# Altium footprint library RF_Connectors.PcbLib: 18 footprints (part 2 of 2)
Each footprint in its own frame and in the unit in brackets; x right, y up, seen from the top. Pads: shape width x height; smd on the part's side, far side on the other; paste and mask are expansions set on the pad; w line width, h text height; cw(c..) or ccw(c..) is an arc to the next point about the centre after c.
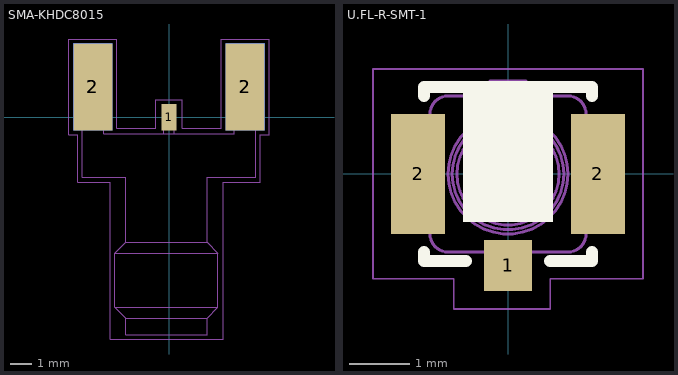
[diagram p1: the footprints below, top view; thin cyan lines are the x and y axes]

## SMA-KHDC8015 [mm] "A=1.5"
pads (5):
  rect 0.7x1.2 smd: 1(0,0)
  rect 1.8x4 smd: 2(-3.5,1.4) 2(3.5,1.4)
  rect 1.8x4 smd far side: 2(-3.5,1.4) 2(3.5,1.4)
Top Courtyard:
  lines w0.025: -4.6,-0.8 -4.6,3.6 -2.4,3.6 -2.4,-0.5 -0.6,-0.5 -0.6,0.8 0.6,0.8 0.6,-0.5 2.4,-0.5 2.4,3.6 4.6,3.6 4.6,-0.8 4.2,-0.8 4.2,-3 2.5,-3 2.5,-10.2 -2.7,-10.2 -2.7,-3 -4.2,-3 -4.2,-0.8 -4.6,-0.8
Top Assy (Mech13):
  lines w0.05: -0.25,-0.75 -0.25,0.5 0.25,0.5 0.25,-0.75 ; -2.5,-8.75 2.25,-8.75 ; -2.5,-8.75 -2,-9.25 ; -2.5,-8.75 -2.5,-6.25 ; -2.5,-6.25 2.25,-6.25 ; -2.5,-6.25 -2,-5.75 ; -2,-9.25 1.75,-9.25 ; -2,-9.25 -2,-10 1.75,-10 1.75,-9.25 ; -2,-5.75 1.75,-5.75 ; -2,-5.75 -2,-2.75 -4,-2.75 -4,3.25 -3,3.25 -3,-0.75 3,-0.75 3,3.25 4,3.25 4,-2.75 1.75,-2.75 1.75,-5.75 ; 1.75,-9.25 2.25,-8.75 ; 1.75,-5.75 2.25,-6.25 ; 2.25,-8.75 2.25,-6.25
  text ".Designator" at 0.453,-7.511 h2
3D body "SMA_KHDC8015.SLDPRT": height 4, standoff -4, extent -4,-10.12 4,3.15

## U.FL-R-SMT-1 [mm] "U.FL Surface Mount Coaxial Connector"
height 1.25
pads (3):
  rect 0.8x0.85 smd: 1(0,-1.525)
  rect 0.9x2 smd paste-3: 2(-1.5,0) 2(1.5,0)
Top Overlay:
  rectangle: -0.75,-0.8 0.75,1.45
  lines w0.2: -1.4,-1.3 -1.4,-1.45 -0.7,-1.45 ; -1.4,1.3 -1.4,1.45 1.4,1.45 1.4,1.3 ; 0.7,-1.45 1.4,-1.45 1.4,-1.3
Top Paste:
  region: 1.9,-0.95 1.9,-0.15 1.1,-0.15 1.1,-0.95
  region: 1.1,0.95 1.1,0.15 1.9,0.15 1.9,0.95
  region: -1.1,-0.95 -1.1,-0.15 -1.9,-0.15 -1.9,-0.95
  region: -1.9,0.95 -1.9,0.15 -1.1,0.15 -1.1,0.95
Top Courtyard:
  lines w0.025: -2.25,-1.75 -2.25,1.75 2.25,1.75 2.25,-1.75 0.7,-1.75 0.7,-2.25 -0.9,-2.25 -0.9,-1.75 -2.25,-1.75
Top Assy (Mech13):
  lines w0.05: -1.3,-0.9 -1.5,-0.9 -1.5,0.9 -1.3,0.9 ; -0.775,-0.35 -0.424,-0.35 ccw(c0,0) 0.424,-0.35 0.775,-0.35 ; -0.775,0.35 -0.424,0.35 cw(c0,0) 0.424,0.35 0.775,0.35 ; -0.3,-1.3 -0.3,-1.55 0.3,-1.55 0.3,-1.3 ; -0.3,0.954 -0.3,1.55 0.3,1.55 0.3,0.954 ; -0.3,1.3 -1,1.3 ccw(c-1,1) -1.3,1 -1.3,-1 ccw(c-1,-1) -1,-1.3 1,-1.3 ccw(c1,-1) 1.3,-1 1.3,1 ccw(c1,1) 1,1.3 0.3,1.3 ; 1.3,-0.9 1.5,-0.9 1.5,0.9 1.3,0.9 ; -1,0 ccw(c0,0) 1,0 ccw(c0,0) -1,0 ; -0.93,0 cw(c0,0) 0.93,0 cw(c0,0) -0.93,0 ; -0.85,0 cw(c0,0) 0.85,0 cw(c0,0) -0.85,0 ; -0.25,0 cw(c0,0) 0.25,0 cw(c0,0) -0.25,0
  text ".Designator" at -4.511,2.047 h2
3D body "U.FL-R-SMT-1.x_t": height 1.28, standoff 0.01, extent -1.5,-1.55 1.5,1.55